# Altium footprint library te_connectivity_headers.PcbLib: 5 footprints
Each footprint in its own frame and in the unit in brackets; x right, y up, seen from the top. Pads: shape width x height; smd on the part's side, far side on the other; paste and mask are expansions set on the pad; w line width, h text height; cw(c..) or ccw(c..) is an arc to the next point about the centre after c.
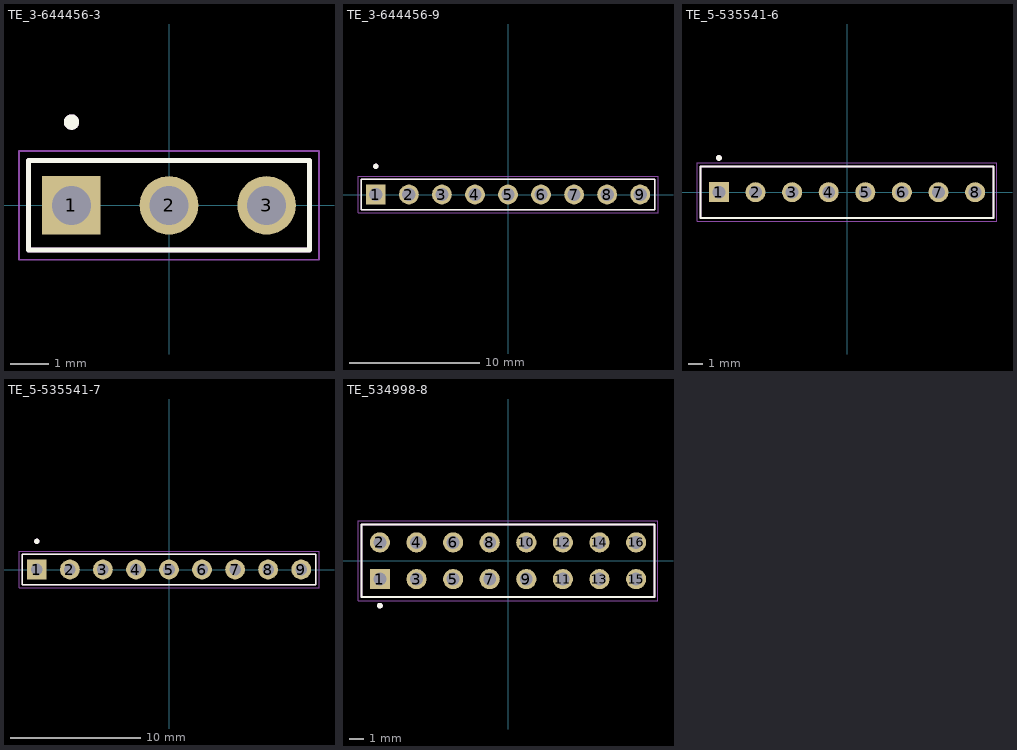
[diagram p0: the footprints below, top view; thin cyan lines are the x and y axes]

## TE_3-644456-3 [mil] "Connector Header Through Hole 3 position 0.100\" (2.54mm)"
height 210
pads (3):
  rect 60x60 hole 40: 1(-100,0)
  round 60 hole 40: 2(0,0) 3(100,0)
Top Overlay:
  circle w7.87: c-100,85.35 r3.94
  lines w5: -143.98,-45.98 -143.98,45.98 143.98,45.98 143.98,-45.98 -143.98,-45.98
Top Fab Assembly - M13:
  circle w7.87: c-100,85.35 r3.94
  circle w7.87: c-100,85.35 r3.94
  lines w5: -143.98,-45.98 -143.98,45.98 ; -143.98,-45.98 143.98,-45.98 ; -143.98,-45.98 -143.98,45.98 ; -143.98,-45.98 143.98,-45.98 ; -143.98,45.98 143.98,45.98 ; -143.98,45.98 143.98,45.98 ; 143.98,-45.98 143.98,45.98 ; 143.98,-45.98 143.98,45.98
Top Courtyard - M15:
  lines w1.97: -153.82,-55.83 -153.82,55.83 153.82,55.83 153.82,-55.83 -153.82,-55.83
3D body "c-3-644456-3-j-3d.stp": height 395, standoff -110, extent -144.09,-45.99 144.1,46.01

## TE_3-644456-9 [mil] "Connector Header Through Hole 9 position 0.100\" (2.54mm)"
height 210
pads (9):
  rect 60x60 hole 40: 1(-400,0)
  round 60 hole 40: 2(-300,0) 3(-200,0) 4(-100,0) 5(0,0) 6(100,0) 7(200,0) 8(300,0) 9(400,0)
Top Overlay:
  circle w7.87: c-400,85.35 r3.94
  lines w5: -443.98,-45.98 443.98,-45.98 443.98,45.98 -443.98,45.98 -443.98,-45.98
Top Fab Assembly - M13:
  circle w7.87: c-400,85.35 r3.94
  circle w7.87: c-400,85.35 r3.94
  lines w5: -443.98,-45.98 443.98,-45.98 ; -443.98,-45.98 -443.98,45.98 ; -443.98,-45.98 443.98,-45.98 ; -443.98,-45.98 -443.98,45.98 ; -443.98,45.98 443.98,45.98 ; -443.98,45.98 443.98,45.98 ; 443.98,-45.98 443.98,45.98 ; 443.98,-45.98 443.98,45.98
Top Courtyard - M15:
  lines w1.97: -453.82,-55.83 453.82,-55.83 453.82,55.83 -453.82,55.83 -453.82,-55.83
3D body "c-3-644456-9-j-3d.stp": height 395, standoff -110, extent -444.1,-46 444.09,46

## TE_5-535541-6 [mil] "CONN RCPT 8POS 0.1 GOLD PCB"
height 244.88
pads (8):
  rect 54.65x54.65 hole 35: 1(-350,0)
  round 54.65 hole 35: 2(-250,0) 3(-150,0) 4(-50,0) 5(50,0) 6(150,0) 7(250,0) 8(350,0)
Top Overlay:
  circle w7.87: c-350,93.7 r3.94
  lines w5: -400,-70.08 -400,70.08 400,70.08 400,-70.08 -400,-70.08
Top Fab Assembly - M13:
  circle w7.87: c-350,93.7 r3.94
  circle w7.87: c-350,93.7 r3.94
  lines w5: -400,-70.08 -400,70.08 ; -400,-70.08 400,-70.08 ; -400,-70.08 -400,70.08 ; -400,-70.08 400,-70.08 ; -400,70.08 400,70.08 ; -400,70.08 400,70.08 ; 400,-70.08 400,70.08 ; 400,-70.08 400,70.08
Top Courtyard - M15:
  lines w1.97: -409.84,-79.92 -409.84,79.92 409.84,79.92 409.84,-79.92 -409.84,-79.92
3D body "c-5-535541-6-n-3d.stp": height 275, standoff -115, extent -400,-70 400,70

## TE_5-535541-7 [mil] "CONN RCPT 9POS 0.1 GOLD PCB"
height 244.88
pads (9):
  rect 60x60 hole 35: 1(-400,0)
  round 60 hole 35: 2(-300,0) 3(-200,0) 4(-100,0) 5(0,0) 6(100,0) 7(200,0) 8(300,0) 9(400,0)
Top Overlay:
  circle w7.87: c-400,85.35 r3.94
  lines w5: -443.98,-45.98 443.98,-45.98 443.98,45.98 -443.98,45.98 -443.98,-45.98
Top Fab Assembly - M13:
  circle w7.87: c-400,85.35 r3.94
  circle w7.87: c-400,85.35 r3.94
  lines w5: -443.98,-45.98 443.98,-45.98 ; -443.98,-45.98 -443.98,45.98 ; -443.98,-45.98 443.98,-45.98 ; -443.98,-45.98 -443.98,45.98 ; -443.98,45.98 443.98,45.98 ; -443.98,45.98 443.98,45.98 ; 443.98,-45.98 443.98,45.98 ; 443.98,-45.98 443.98,45.98
Top Courtyard - M15:
  lines w1.97: -453.82,-55.83 453.82,-55.83 453.82,55.83 -453.82,55.83 -453.82,-55.83
3D body "c-5-535541-7-n-3d.stp": height 275, standoff -115, extent -450,-70 450,70

## TE_534998-8 [mm] "CONN RCPT 16POS 0.1 GOLD PCB"
height 6.22
pads (16):
  rect 1.398x1.398 hole 0.89: 1(-8.89,-1.27)
  round 1.398 hole 0.89: 2(-8.89,1.27) 3(-6.35,-1.27) 4(-6.35,1.27) 5(-3.81,-1.27) 6(-3.81,1.27) 7(-1.27,-1.27) 8(-1.27,1.27) 9(1.27,-1.27) 10(1.27,1.27) 11(3.81,-1.27) 12(3.81,1.27) 13(6.35,-1.27) 14(6.35,1.27) 15(8.89,-1.27) 16(8.89,1.27)
Top Overlay:
  circle w0.2: c-8.89,-3.115 r0.1
  lines w0.127: -10.16,-2.515 -10.16,2.515 10.16,2.515 10.16,-2.515 -10.16,-2.515
Top Fab Assembly - M13:
  circle w0.2: c-8.89,-3.115 r0.1
  circle w0.2: c-8.89,-3.115 r0.1
  lines w0.127: -10.16,-2.515 -10.16,2.515 ; -10.16,-2.515 10.16,-2.515 ; -10.16,-2.515 -10.16,2.515 ; -10.16,-2.515 10.16,-2.515 ; -10.16,2.515 10.16,2.515 ; -10.16,2.515 10.16,2.515 ; 10.16,-2.515 10.16,2.515 ; 10.16,-2.515 10.16,2.515
Top Courtyard - M15:
  lines w0.05: -10.41,-2.765 -10.41,2.765 10.41,2.765 10.41,-2.765 -10.41,-2.765
3D body "c-534998-8-r-3d.stp": height 6.22, standoff -3.68, extent -10.16,-2.515 10.16,2.514